# Altium footprint library coin cell holders.PcbLib: 1 footprints
Each footprint in its own frame and in the unit in brackets; x right, y up, seen from the top. Pads: shape width x height; smd on the part's side, far side on the other; paste and mask are expansions set on the pad; w line width, h text height; cw(c..) or ccw(c..) is an arc to the next point about the centre after c.
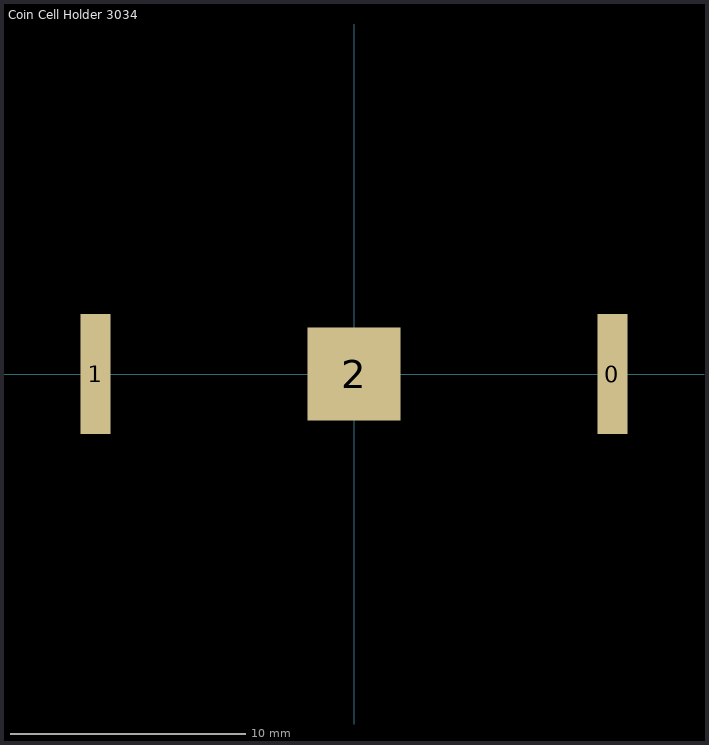
[diagram p0: the footprint, top view; thin cyan lines are the x and y axes]

## Coin Cell Holder 3034 [mil] "Keystone 3034 Coin Cell Holder for CR2032 batteries"
height 160
pads (3):
  rect 50x200 smd: 0(432.5,0) 1(-432.5,0)
  rect 156x156 smd: 2(0,0)